# Altium footprint library ELCAP_D8_H11_5_P4.PcbLib: 1 footprints
Each footprint in its own frame and in the unit in brackets; x right, y up, seen from the top. Pads: shape width x height; smd on the part's side, far side on the other; paste and mask are expansions set on the pad; w line width, h text height; cw(c..) or ccw(c..) is an arc to the next point about the centre after c.
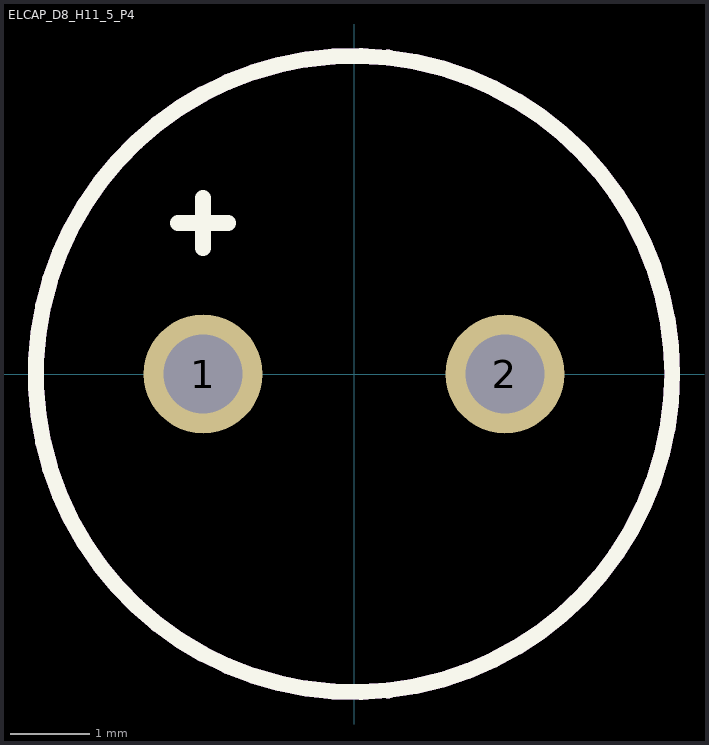
[diagram p0: the footprint, top view; thin cyan lines are the x and y axes]

## ELCAP_D8_H11_5_P4 [mm]
pads (2):
  round 1.5 hole 1: 1(-1.905,0) 2(1.905,0)
Top Overlay:
  circle w0.2: c0,0 r4.016
  lines w0.2: -2.222,1.905 -1.587,1.905 ; -1.905,1.587 -1.905,2.222
TopAssy:
  circle w0.2: c0,0 r4.016
  lines w0.2: -2.54,0 -1.27,0 ; -1.905,-0.635 -1.905,0.635
3D body "SW3dPS-Cap electro 8x11.5x3.5mm.STEP": height 12.03, standoff -3.48, extent -4.025,-4.025 4.026,4.026